# Altium schematic symbol library Schematics.SchLib: 23 symbols
Pins are listed as number, name and electrical type; pins without a type are passive.

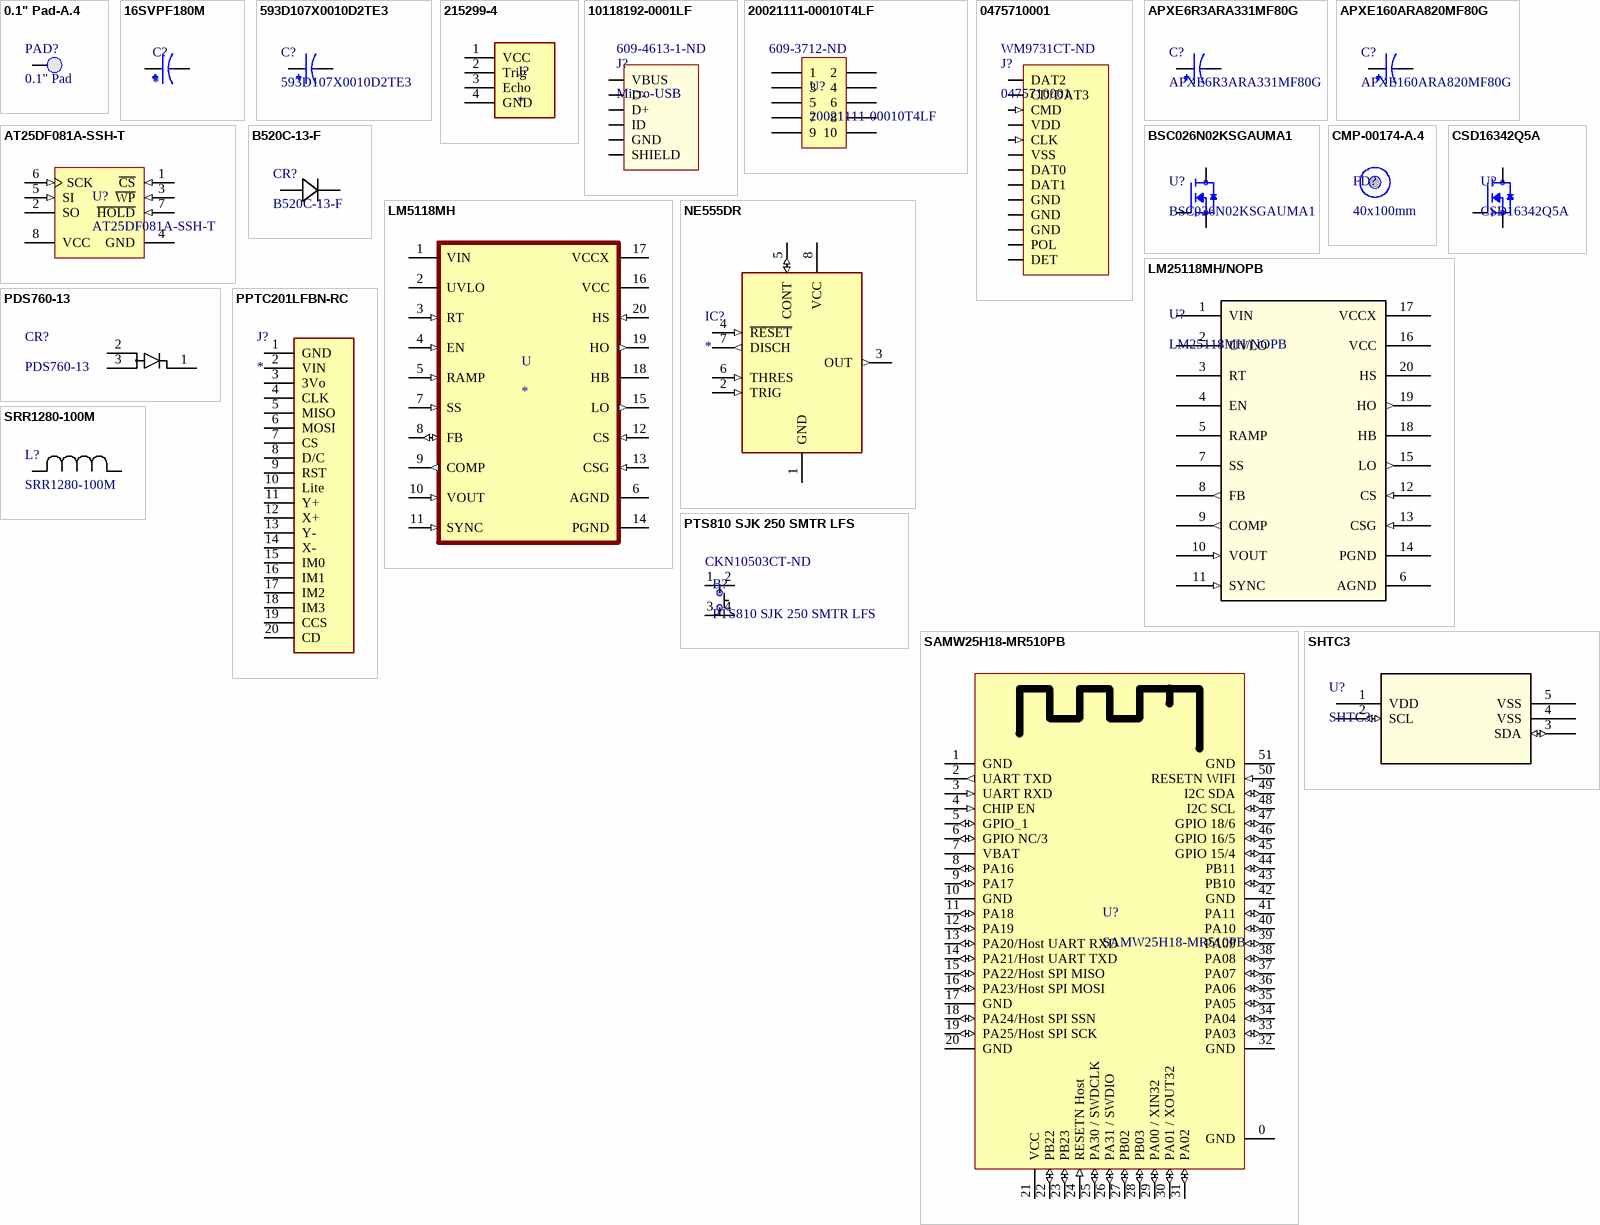
[diagram p0: symbols 0.1" Pad-A.4 to SRR1280-100M]

## 0.1" Pad-A.4
designator PAD?, comment 0.1" Pad
footprint PCBComponent
pins: 1 PAD

## 16SVPF180M
designator C?
MP: 16SVPF180M; Price: None; Availability: Unavailable; Value: *; Package: None
footprint CAP_16SVPF180M
pins: 1, 2

## 593D107X0010D2TE3
designator C?
No Description Available; Mfr_Name: Vishay; Type: DEV; Copyright: Copyright (C) 2022 Ultra Librarian. All rights reserved.; Manufacturer_Part_Number: 593D107X0010D2TE3; Digi-Key_Part_Number_1: 718-1100-2-ND; Digi-Key_Part_Number_2: 718-1100-1-ND; Digi-Key_Part_Number_3: 718-1100-6-ND; RefDes: RefDes
footprint CAP_593D-D_VSS
pins: 1, 2

## 215299-4
designator J?
Connector; MP: 215299-4; Package: None; Price: None; Value: *; Availability: Unavailable
footprint TE_215299-4
pins: 1 VCC, 2 Trig, 3 Echo, 4 GND

## 10118192-0001LF
designator J?, comment Micro-USB  Supplier Part Number 1: 609-4613-1-ND
CONN USB MICRO B RECPT SMT R/A; HelpURL: http://portal.fciconnect.com/Comergent//fci/drawing/10118192.pdf; Supplier 1: Digi-Key
footprint 10118192-0001LF
pins: 1 VBUS, 2 D-, 3 D+, 4 ID, 5 GND, 6 SHIELD

## 20021111-00010T4LF
designator U?  Supplier Part Number 1: 609-3712-ND
CONN HEADER 10POS UNSHD VERT T/H; Manufacturer: Amphenol / FCI; Stack Height: 2.5 mm; Number of Positions / Contacts: 10; Brand: FCI; Pitch: 1.27 mm; Mounting Angle: Vertical; Current Rating: 10 A; Mating Post Length: 3.05 mm; Voltage Rating: 125 V; Manufacturer Part Number: 20021111-00010T4LF; Mounting Style: Through Hole; Product Category: Headers & Wire Housings; RoHS: Details; Series: Minitek; Product Type: Headers; Type: Unshrouded; Number of Positions: 10; Number of Rows: 2; Contact Plating: Gold; Housing Material: Plastic; Termination Style: Through Hole; Contact Material: Nickel; Packaging: Tube; Factory Pack Quantity: 93; Termination Post Length: 2.3 mm; ComponentLink1URL: https://datasheet.ciiva.com/1433/1079612-1433267.pdf; ComponentLink1Description: https://datasheet.ciiva.com/1433/1079612-1433267.pdf; ComponentLink2URL: https://datasheet.ciiva.com/409/20021111-409158.pdf; ComponentLink2Description: https://datasheet.ciiva.com/409/20021111-409158.pdf; ComponentLink3URL: https://datasheet.ciiva.com/5131/20021111-5131386.pdf; ComponentLink3Description: https://datasheet.ciiva.com/5131/20021111-5131386.pdf; ComponentLink4URL: https://datasheet.ciiva.com/9465/20021111-9465402.pdf; ComponentLink4Description: https://datasheet.ciiva.com/9465/20021111-9465402.pdf; Supplier 1: Digi-Key
footprint 20021111-00010T4LF (CONN HEADER 10POS UNSHD VERT T/H)
pins: 1, 2, 3, 4, 5, 6, 7, 8, 9, 10

## 0475710001
designator J?  Supplier Part Number 1: WM9731CT-ND
CONN MICRO SD CARD PUSH-PULL R/A; HelpURL: http://www.molex.com/pdm_docs/sd/475710001_sd.pdf; Supplier 1: Digi-Key
footprint 0475710001
pins: 1 DAT2 (io), 2 CD/DAT3 (io), 3 CMD (in), 4 VDD (power), 5 CLK (in), 6 VSS (power), 7 DAT0 (io), 8 DAT1 (io), 9 GND, 10 GND, 11 GND, 12 POL, 13 DET

## APXE6R3ARA331MF80G
designator C?
No Description Available; Mfr_Name: Nippon Chemi-Con; Type: DEV; Copyright: Copyright (C) 2022 Ultra Librarian. All rights reserved.; Manufacturer_Part_Number: APXE6R3ARA331MF80G; Digi-Key_Part_Number_1: 565-3190-1-ND; Digi-Key_Part_Number_2: 565-3190-2-ND; Digi-Key_Part_Number_3: 565-3190-2-NDL; Digi-Key_Part_Number_4: 565-3190-6-ND; RefDes: RefDes
footprint CHEMI-F80
pins: 1, 2

## APXE160ARA820MF80G
designator C?
No Description Available; Mfr_Name: Nippon Chemi-Con; Type: DEV; Copyright: Copyright (C) 2022 Ultra Librarian. All rights reserved.; Manufacturer_Part_Number: APXE160ARA820MF80G; Digi-Key_Part_Number_1: 565-3209-1-ND; Digi-Key_Part_Number_2: 565-3209-2-ND; Digi-Key_Part_Number_3: 565-3209-6-ND; RefDes: RefDes
footprint CHEMI-F80
pins: 1, 2

## AT25DF081A-SSH-T
designator U?
IC FLASH 8MBIT 100MHZ 8SOIC; Manufacturer: Adesto Technologies; Memory Size: 8M (4096 pages x 256 bytes); Interface: SPI, RapidS; Voltage - Supply: 2.7 V ~ 3.6 V; Rad Hard: No; Manufacturer Part Number: AT25DF081A-SSH-T; RoHS: RoHS Compliant; Category: Integrated Circuits (ICs); Packaging: Cut Tape (CT); Part Status: Active; Format - Memory: FLASH; Memory Type: FLASH; Speed: 100MHz; Operating Temperature: -40°C ~ 85°C (TC); Package / Case: 8-SOIC (0.154", 3.90mm Width); Supplier Device Package: 8-SOIC; ComponentLink1URL: http://www.adestotech.com/wp-content/uploads/doc8715.pdf; ComponentLink1Description: http://www.adestotech.com/wp-content/uploads/doc8715.pdf; Supplier 1: Digikey; Stock 1: 2550; Pricing 1: 1=1.18, 10=1.081, 25=1.0516, 50=1.0462, 100=0.9352, 250=0.9324, 500=0.9185, 1000=0.8791 (USD); Package: 8SOIC; ComponentLink2URL: https://datasheet.ciiva.com/14084/doc8715-14084443.pdf; ComponentLink2Description: https://datasheet.ciiva.com/14084/doc8715-14084443.pdf; ComponentLink3URL: https://datasheet.ciiva.com/26910/getdatasheetpartid-730210-26910875.pdf; ComponentLink3Description: https://datasheet.ciiva.com/26910/getdatasheetpartid-730210-26910875.pdf; ComponentLink4URL: https://datasheet.ciiva.com/12251/doc8715-12251468.pdf; ComponentLink4Description: https://datasheet.ciiva.com/12251/doc8715-12251468.pdf; Supplier Part Number 1: 1265-1166-1-ND
footprint AT25DF081A-SSH-T (IC FLASH 8MBIT 100MHZ 8SOIC)
pins: 1 ~{CS} (in), 2 SO (hiz), 3 ~{WP} (in), 4 GND (power), 5 SI (in), 6 SCK (in), 7 ~{HOLD} (in), 8 VCC (power)

## B520C-13-F
designator CR?
No Description Available; Mfr_Name: Diodes Inc; Type: DEV; Copyright: Copyright (C) 2022 Ultra Librarian. All rights reserved.; Manufacturer_Part_Number: B520C-13-F; Digi-Key_Part_Number_1: B520C-FDICT-ND; Digi-Key_Part_Number_2: B520C-FDIDKR-ND; Digi-Key_Part_Number_3: B520C-FDITR-ND; RefDes: RefDes
footprint SMC_DIO
pins: 1, 2

## BSC026N02KSGAUMA1
designator U?
No Description Available; Mfr_Name: Infineon; Copyright: Copyright (C) 2022 Ultra Librarian. All rights reserved.; Manufacturer_Part_Number: BSC026N02KSGAUMA1; Digi-Key_Part_Number_1: BSC026N02KSGAUMA1TR-ND; Digi-Key_Part_Number_2: BSC026N02KSGAUMA1CT-ND; Digi-Key_Part_Number_3: BSC026N02KSGAUMA1DKR-ND; RefDes: RefDes; Type: DEV
footprint PG-TDSON-8_BSC026N02KSGAUMA1_INF
pins: 1 S, 2 S, 3 S, 4 G, 5 D, 6 D, 7 D, 8 D

## CMP-00174-A.4
designator FD?, comment 40x100mm
Fiducial 40x100mm
footprint Fiducial_FT

## CSD16342Q5A
designator U?
No Description Available; Mfr_Name: Texas Instruments; Copyright: Copyright (C) 2022 Ultra Librarian. All rights reserved.; Manufacturer_Part_Number: CSD16342Q5A; Digi-Key_Part_Number_1: 296-30314-1-ND; Digi-Key_Part_Number_2: 296-30314-2-ND; Digi-Key_Part_Number_3: 296-30314-6-ND; Digi-Key_Part_Number_4: 2156-CSD16342Q5A-ND; RefDes: RefDes; Type: DEV
footprint DQJ8_TEX
pins: 1 S, 2 S, 3 S, 4 G, 5 D, 6 D, 7 D, 8 D

## LM5118MH
designator U
Buck, Buck-Boost Regulator Positive Output Step-Down, Step-Up/Step-Down DC-DC Controller IC 20-HTSSOP; MF: Texas Instruments; MP: LM5118MH; SnapEDA_Link: https://www.snapeda.com/parts/LM5118MH/Texas%20Instruments/view-part/561238/?ref=snap; Price: None; Availability: Unavailable; Package: HTSSOP-20 Texas Instruments; Value: *
footprint MXA20A
pins: 1 VIN (power), 2 UVLO, 3 RT (in), 4 EN (in), 5 RAMP (in), 6 AGND, 7 SS (in), 8 FB (io), 9 COMP (out), 10 VOUT (in), 11 SYNC (in), 12 CS (in), 13 CSG (in), 14 PGND, 15 LO (out), 16 VCC (power), 17 VCCX (power), 18 HB (power), 19 HO (out), 20 HS (in)

## LM25118MH/NOPB
designator U?
No Description Available; Mfr_Name: Texas Instruments; Copyright: Copyright (C) 2022 Ultra Librarian. All rights reserved.; Manufacturer_Part_Number: LM25118MH/NOPB; Digi-Key_Part_Number_1: 296-38995-ND; Digi-Key_Part_Number_2: LM25118MH/NOPB-ND; Digi-Key_Part_Number_3: 2156-LM25118MH/NOPB-ND; RefDes: RefDes; Type: DEV
footprint MXA20A
pins: 1 VIN (power), 2 UVLO, 3 RT, 4 EN, 5 RAMP, 6 AGND (power), 7 SS, 8 FB (out), 9 COMP (out), 10 VOUT (in), 11 SYNC (in), 12 CS (in), 13 CSG (in), 14 PGND (power), 15 LO (out), 16 VCC (power), 17 VCCX (power), 18 HB, 19 HO (out), 20 HS

## NE555DR
designator IC?
Integrated Circuit; Manufacturer_Name: Texas Instruments; Manufacturer_Part_Number: NE555DR; Datasheet Link: http://www.ti.com/lit/ds/symlink/ne555.pdf; Height: 1.75mm; Mouser Part Number: 595-NE555DR; Mouser Price/Stock: https://www.mouser.com/Search/Refine.aspx?Keyword=595-NE555DR; RS Part Number: 1218414; RS Price/Stock: http://uk.rs-online.com/web/p/products/1218414
footprint SOIC127P600X175-8N
pins: 1 GND (power), 2 TRIG (in), 3 OUT (out), 4 ~{RESET} (in), 5 CONT (io), 6 THRES (in), 7 DISCH (out), 8 VCC (power)

## PDS760-13
designator CR?
No Description Available; Mfr_Name: Diodes Inc; Type: DEV; Copyright: Copyright (C) 2022 Ultra Librarian. All rights reserved.; Manufacturer_Part_Number: PDS760-13; Digi-Key_Part_Number_1: PDS760DITR-ND; Digi-Key_Part_Number_2: PDS760DICT-ND; Digi-Key_Part_Number_3: PDS760DIDKR-ND; RefDes: RefDes
footprint POWERDI5_DIO
pins: 1, 2, 3

## PPTC201LFBN-RC
designator J?
Connector; Manufacturer_Name: Sullins; Manufacturer_Part_Number: PPTC201LFBN-RC; Datasheet Link: https://media.digikey.com/pdf/Data%20Sheets/Sullins%20PDFs/Female_Headers.100_DS.pdf; Height: 8.5mm
footprint RHDR20W75P0X254_1X20_5130X254X850P
pins: 1 GND, 2 VIN, 3 3Vo, 4 CLK, 5 MISO, 6 MOSI, 7 CS, 8 D/C, 9 RST, 10 Lite, 11 Y+, 12 X+, 13 Y-, 14 X-, 15 IM0, 16 IM1, 17 IM2, 18 IM3, 19 CCS, 20 CD

## PTS810 SJK 250 SMTR LFS
designator B?  Supplier Part Number 1: CKN10503CT-ND
SWITCH TACTILE SPST-NO 0.05A 16V Tactile Switch SPST-NO Top Actuated Surface Mount; Manufacturer: ITT /  C&K Components; Part # Aliases: Y97LT25B5DBFP; Operating Force: 2.6 N; Actuator: Oval; Current Rating: 50 mA; Voltage Rating DC: 16 VDC; Contact Form: SPST; Switch Function: OFF - (ON); Mounting Direction: Straight; Stem Height: 2.5 mm; Brand: C&K Components; Travel: 0.15 mm; Manufacturer Part Number: PTS810SJK250SMTRLFS; Product Category: Tactile Switches; RoHS: Details; Termination Style: J Form Lead; Mounting Style: SMD/SMT; Color: White; Packaging: Reel; Contact Plating: Silver; Operating Temperature Range: - 40 C to + 85 C; Series: PTS810; Factory Pack Quantity: 2900; ComponentLink1URL: https://datasheet.ciiva.com/18514/pts810-4mar13-18514061.pdf; ComponentLink1Description: https://datasheet.ciiva.com/18514/pts810-4mar13-18514061.pdf; ComponentLink2URL: https://datasheet.ciiva.com/18514/pts810-4mar13-18514062.pdf; ComponentLink2Description: https://datasheet.ciiva.com/18514/pts810-4mar13-18514062.pdf; ComponentLink3URL: https://datasheet.ciiva.com/18514/pts810-4mar13-18514063.pdf; ComponentLink3Description: https://datasheet.ciiva.com/18514/pts810-4mar13-18514063.pdf; Supplier 1: Digi-Key
footprint PTS810 SJK 250 SMTR LFS (SWITCH TACTILE SPST-NO 0.05A 16V)
pins: 1 (power), 2 (power), 3 (power), 4 (power)

## SAMW25H18-MR510PB
designator U?
RF TXRX MODULE WIFI TRACE ANT; Manufacturer: Atmel; Manufacturer Part Number: ATSAMW25H18-MR510PB; Protocol: 802.11b/g/n; Frequency: 2.4GHz; Data Rate: 65Mbps; Power - Output: 17dBm; Sensitivity: -95.5dBm; Serial Interfaces: SPI, UART; Antenna Type: Integrated, Trace; Memory Size: 256kB Flash, 32kB SRAM; Voltage - Supply: 2.7 V ~ 4.2 V; Category: RF/IF and RFID; Family: RF Transceiver Modules; Series: Xplained Pro; Packaging: Tray; RF Family/Standard: WiFi; Modulation: -; Current - Receiving: -; Current - Transmitting: -; Mounting Type: Surface Mount; Operating Temperature: -40°C ~ 85°C; Package / Case: Module; ComponentLink1URL: http://www.atmel.com/devices/ATSAMW25.aspx; ComponentLink1Description: http://www.atmel.com/devices/ATSAMW25.aspx; ComponentLink2URL: http://www.farnell.com/datasheets/1965115.pdf; ComponentLink2Description: http://www.farnell.com/datasheets/1965115.pdf; Supplier 1: Digikey; Stock 1: 120; Pricing 1: 1=19.14 (USD); Supplier Part Number 1: ATSAMW25H18-MR510PB-ND
footprint SAMW25H18-MR510PB
pins: 0 GND (power), 1 GND (power), 2 UART TXD (out), 3 UART RXD (in), 4 CHIP EN (in), 5 GPIO_1 (io), 6 GPIO NC/3 (io), 7 VBAT (power), 8 PA16 (io), 9 PA17 (io), 10 GND (power), 11 PA18 (io), 12 PA19 (io), 13 PA20/Host UART RXD (io), 14 PA21/Host UART TXD (io), 15 PA22/Host SPI MISO (io), 16 PA23/Host SPI MOSI (io), 17 GND (power), 18 PA24/Host SPI SSN (io), 19 PA25/Host SPI SCK (io), 20 GND (power), 21 VCC (power), 22 PB22 (io), 23 PB23 (io), 24 RESETN Host (in), 25 PA30 / SWDCLK (io), 26 PA31 / SWDIO (io), 27 PB02 (io), 28 PB03 (io), 29 PA00 / XIN32 (io), 30 PA01 / XOUT32 (io), 31 PA02 (io), 32 GND (power), 33 PA03 (io), 34 PA04 (io), 35 PA05 (io), 36 PA06 (io), 37 PA07 (io), 38 PA08 (io), 39 PA09 (io), 40 PA10 (io), 41 PA11 (io), 42 GND (power), 43 PB10 (io), 44 PB11 (io), 45 GPIO 15/4 (io), 46 GPIO 16/5 (io), 47 GPIO 18/6 (io), 48 I2C SCL (io), 49 I2C SDA (io), 50 RESETN WIFI (in), 51 GND (power)

## SHTC3
designator U?
No Description Available; Mfr_Name: Sensirion; Copyright: Copyright (C) 2022 Ultra Librarian. All rights reserved.; Manufacturer_Part_Number: SHTC3; Digi-Key_Part_Number_1: 1649-1100-1-ND; Digi-Key_Part_Number_2: 1649-1100-2-ND; Digi-Key_Part_Number_3: 1649-1100-6-ND; Digi-Key_Part_Number_4: 1649-1105-1-ND; Digi-Key_Part_Number_5: 1649-1105-2-ND; Digi-Key_Part_Number_6: 1649-1105-6-ND; RefDes: RefDes; Type: DEV
footprint SHTC3_SEN
pins: 1 VDD (power), 2 SCL (io), 3 SDA (io), 4 VSS, 5 VSS

## SRR1280-100M
designator L?
No Description Available; Mfr_Name: Bourns Electronics; Type: DEV; Copyright: Copyright (C) 2022 Ultra Librarian. All rights reserved.; Manufacturer_Part_Number: SRR1280-100M; Digi-Key_Part_Number_1: SRR1280-100MCT-ND; Digi-Key_Part_Number_2: SRR1280-100MDKR-ND; Digi-Key_Part_Number_3: SRR1280-100MTR-ND; RefDes: RefDes
footprint IND_BOURNS_SRR1280
pins: 1, 2